# Altium integrated library Linear Technology Power Management Switching Regulator LTC1174-LTC3901.IntLib: 2647 symbols (part 354 of 364)
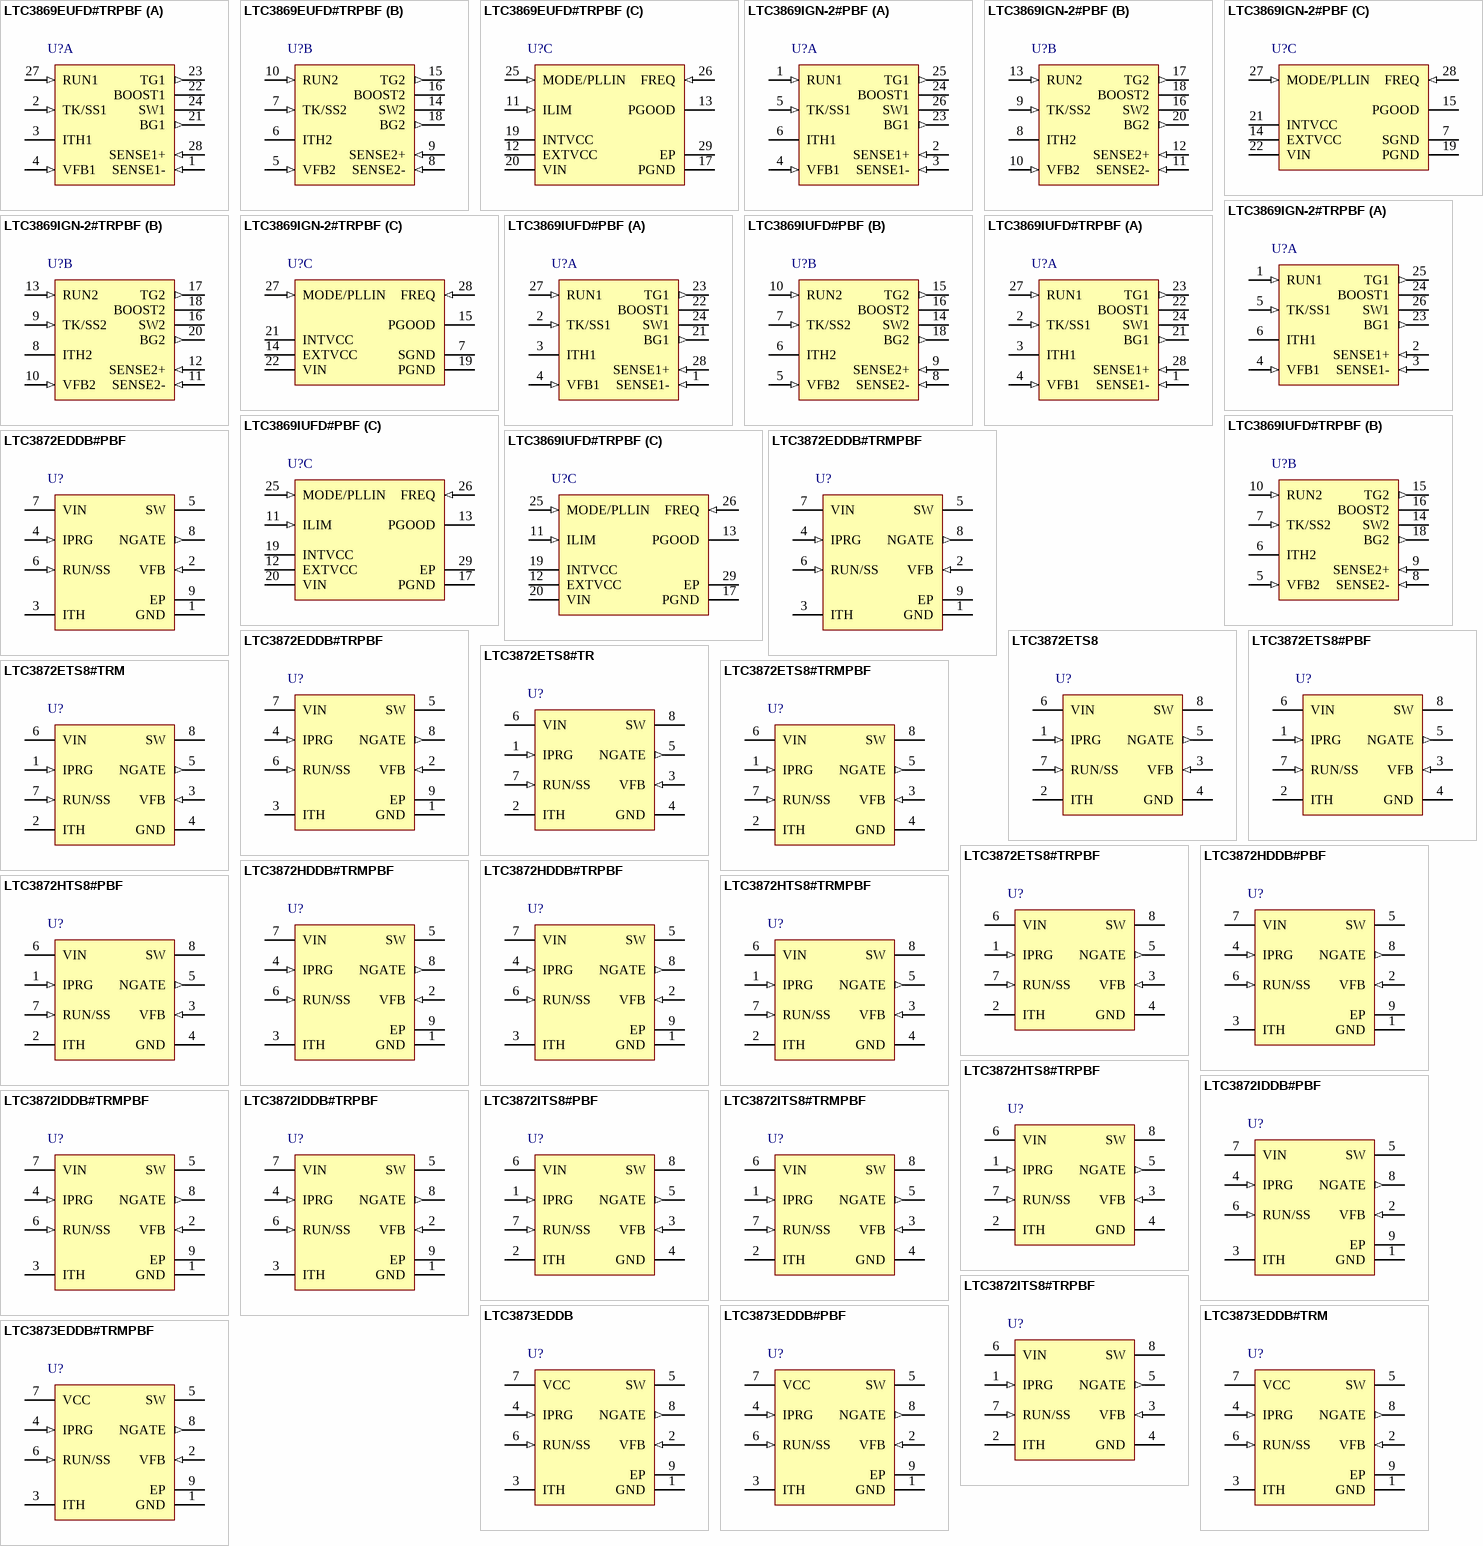
[diagram p300: symbols LTC3869EUFD#TRPBF to LTC3873EDDB#TRMPBF]

## LTC3872HDDB#TRPBF
designator U?
No Rsense Current Mode Boost DC/DC Controller, 8-pin SON (DDB-8), -40 to 150 degC, Pb-Free, Tape and Reel; Manufacturer: Linear Technology; PartNumber: LTC3872HDDB#TRPBF; Number of Outputs: 1; DatasheetVersion: Rev. B; PackageVersion: Rev. B, 06/2010; PackageReference: DDB-8; PackageDescription: 8-Pin Plastic DFN, Body 3 x 2 mm, Pitch 0.5 mm; Supplier 1: Digi-Key; Supplier Part Number 1: LTC3872HDDB#TRPBF-ND; Packing: Tape and Reel; RoHS: TRUE; Mounting Technology: Surface Mount; Code_JEDEC: MO-229; ComponentLink1Description: Manufacturer URL; ComponentLink1URL: http://www.linear.com/; ComponentLink2Description: Datasheet; ComponentLink2URL: http://cds.linear.com/docs/en/datasheet/3872fb.pdf; ComponentLink3Description: Package Specification; ComponentLink3URL: http://cds.linear.com/docs/en/packaging/DFN_8_05-08-1702.pdf
footprint LT-DDB-8_V (SON, 8-Leads, Body 3x2mm, Pitch 0.5mm, Thermal Pad 2.2x0.61mm)
pins: 1 GND (power) "Ground. The exposed pad must be soldered to PCB ground for electrical contact and rated thermal performance.", 2 VFB (in) "Receives the feedback voltage from an external resistor divider across the output.", 3 ITH "It serves as the error amplifier compensation point. Nominal voltage range for this pin is 0.7V to 1.9V", 4 IPRG (in) "Current Sense Limit Select Pin.", 5 SW "Switch node connection to inductor and current sense input pin through external slope compensation resistor. Normally, the external N-channel MOSFET’s drain is connected to this pin.", 6 RUN/SS (in) "Shutdown and external soft-start pin. In shutdown, all functions are disabled and the NGATE pin is held low.", 7 VIN (power) "Supply Pin. This pin must be closely decoupled to GND.", 8 NGATE (out) "Gate Drive for the External N-Channel MOSFET. This pin swings from 0V to VIN.", 9 EP (power) "Ground. The exposed pad must be soldered to PCB ground for electrical contact and rated thermal performance."

## LTC3872HTS8#PBF
designator U?
No Rsense Current Mode Boost DC/DC Controller, 8-pin SOT23 (TS8-8), -40 to 150 degC, Pb-Free; Manufacturer: Linear Technology; PartNumber: LTC3872HTS8#PBF; Number of Outputs: 1; DatasheetVersion: Rev. B; PackageVersion: Rev. A, 08/2010; PackageReference: TS8-8; PackageDescription: 8-Pin Plastic TSOT-23, Body 2.9 x 1.63 mm, Pitch 0.65 mm; Supplier 1: Newark; Supplier Part Number 1: 78T3272; RoHS: TRUE; Mounting Technology: Surface Mount; Code_JEDEC: MO-193; ComponentLink1Description: Manufacturer URL; ComponentLink1URL: http://www.linear.com/; ComponentLink2Description: Datasheet; ComponentLink2URL: http://cds.linear.com/docs/en/datasheet/3872fb.pdf; ComponentLink3Description: Package Specification; ComponentLink3URL: http://cds.linear.com/docs/en/packaging/SOT_8_05-08-1637.pdf
footprint LT-TS8-8-TSOT-23_V (SOT23, 8-Leads, Body 2.9x1.75mm, Pitch 0.65mm)
pins: 1 IPRG (in) "Current Sense Limit Select Pin", 2 ITH "It serves as the error amplifier compensation point. Nominal voltage range for this pin is  0.7V to 1.9V.", 3 VFB (in) "Receives the feedback voltage from an  external resistor divider across the output.", 4 GND (power) "Ground. The exposed pad must be soldered to PCB ground for electrical  contact and rated thermal performance", 5 NGATE (out) "Gate Drive for the External N-Channel  MOSFET. This pin swings from 0V to VIN.", 6 VIN (power) "Supply Pin. This pin must be closely  decoupled to GND.", 7 RUN/SS (in) "Shutdown and external soft-start  pin. In shutdown, all functions are disabled and the NGATE  pin is held low.", 8 SW "Switch node connection to inductor and  current sense input pin through external slope compensation resistor. Normally, the external N-channel MOSFET’s  drain is connected to this pin."

## LTC3872HTS8#TRMPBF
designator U?
No Rsense Current Mode Boost DC/DC Controller, 8-pin SOT23 (TS8-8), -40 to 150 degC, Pb-Free, Mini Tape and Reel; Manufacturer: Linear Technology; PartNumber: LTC3872HTS8#TRMPBF; Number of Outputs: 1; DatasheetVersion: Rev. B; PackageVersion: Rev. A, 08/2010; PackageReference: TS8-8; PackageDescription: 8-Pin Plastic TSOT-23, Body 2.9 x 1.63 mm, Pitch 0.65 mm; Supplier 1: Digi-Key; Supplier Part Number 1: LTC3872HTS8#TRMPBF-ND; Packing: Mini Tape and Reel; RoHS: TRUE; Mounting Technology: Surface Mount; Code_JEDEC: MO-193; ComponentLink1Description: Manufacturer URL; ComponentLink1URL: http://www.linear.com/; ComponentLink2Description: Datasheet; ComponentLink2URL: http://cds.linear.com/docs/en/datasheet/3872fb.pdf; ComponentLink3Description: Package Specification; ComponentLink3URL: http://cds.linear.com/docs/en/packaging/SOT_8_05-08-1637.pdf
footprint LT-TS8-8-TSOT-23_V (SOT23, 8-Leads, Body 2.9x1.75mm, Pitch 0.65mm)
pins: 1 IPRG (in) "Current Sense Limit Select Pin", 2 ITH "It serves as the error amplifier compensation point. Nominal voltage range for this pin is  0.7V to 1.9V.", 3 VFB (in) "Receives the feedback voltage from an  external resistor divider across the output.", 4 GND (power) "Ground. The exposed pad must be soldered to PCB ground for electrical  contact and rated thermal performance", 5 NGATE (out) "Gate Drive for the External N-Channel  MOSFET. This pin swings from 0V to VIN.", 6 VIN (power) "Supply Pin. This pin must be closely  decoupled to GND.", 7 RUN/SS (in) "Shutdown and external soft-start  pin. In shutdown, all functions are disabled and the NGATE  pin is held low.", 8 SW "Switch node connection to inductor and  current sense input pin through external slope compensation resistor. Normally, the external N-channel MOSFET’s  drain is connected to this pin."

## LTC3872HTS8#TRPBF
designator U?
No Rsense Current Mode Boost DC/DC Controller, 8-pin SOT23 (TS8-8), -40 to 150 degC, Pb-Free, Tape and Reel; Manufacturer: Linear Technology; PartNumber: LTC3872HTS8#TRPBF; Number of Outputs: 1; DatasheetVersion: Rev. B; PackageVersion: Rev. A, 08/2010; PackageReference: TS8-8; PackageDescription: 8-Pin Plastic TSOT-23, Body 2.9 x 1.63 mm, Pitch 0.65 mm; Supplier 1: Digi-Key; Supplier Part Number 1: LTC3872HTS8#TRPBF-ND; Packing: Tape and Reel; RoHS: TRUE; Mounting Technology: Surface Mount; Code_JEDEC: MO-193; ComponentLink1Description: Manufacturer URL; ComponentLink1URL: http://www.linear.com/; ComponentLink2Description: Datasheet; ComponentLink2URL: http://cds.linear.com/docs/en/datasheet/3872fb.pdf; ComponentLink3Description: Package Specification; ComponentLink3URL: http://cds.linear.com/docs/en/packaging/SOT_8_05-08-1637.pdf
footprint LT-TS8-8-TSOT-23_V (SOT23, 8-Leads, Body 2.9x1.75mm, Pitch 0.65mm)
pins: 1 IPRG (in) "Current Sense Limit Select Pin", 2 ITH "It serves as the error amplifier compensation point. Nominal voltage range for this pin is  0.7V to 1.9V.", 3 VFB (in) "Receives the feedback voltage from an  external resistor divider across the output.", 4 GND (power) "Ground. The exposed pad must be soldered to PCB ground for electrical  contact and rated thermal performance", 5 NGATE (out) "Gate Drive for the External N-Channel  MOSFET. This pin swings from 0V to VIN.", 6 VIN (power) "Supply Pin. This pin must be closely  decoupled to GND.", 7 RUN/SS (in) "Shutdown and external soft-start  pin. In shutdown, all functions are disabled and the NGATE  pin is held low.", 8 SW "Switch node connection to inductor and  current sense input pin through external slope compensation resistor. Normally, the external N-channel MOSFET’s  drain is connected to this pin."

## LTC3872IDDB#PBF
designator U?
No Rsense Current Mode Boost DC/DC Controller, 8-pin SON (DDB-8), -40 to 125 degC, Pb-Free; Manufacturer: Linear Technology; PartNumber: LTC3872IDDB#PBF; Number of Outputs: 1; DatasheetVersion: Rev. B; PackageVersion: Rev. B, 06/2010; PackageReference: DDB-8; PackageDescription: 8-Pin Plastic DFN, Body 3 x 2 mm, Pitch 0.5 mm; RoHS: TRUE; Mounting Technology: Surface Mount; Code_JEDEC: MO-229; ComponentLink1Description: Manufacturer URL; ComponentLink1URL: http://www.linear.com/; ComponentLink2Description: Datasheet; ComponentLink2URL: http://cds.linear.com/docs/en/datasheet/3872fb.pdf; ComponentLink3Description: Package Specification; ComponentLink3URL: http://cds.linear.com/docs/en/packaging/DFN_8_05-08-1702.pdf
footprint LT-DDB-8_V (SON, 8-Leads, Body 3x2mm, Pitch 0.5mm, Thermal Pad 2.2x0.61mm)
pins: 1 GND (power) "Ground. The exposed pad must be soldered to PCB ground for electrical contact and rated thermal performance.", 2 VFB (in) "Receives the feedback voltage from an external resistor divider across the output.", 3 ITH "It serves as the error amplifier compensation point. Nominal voltage range for this pin is 0.7V to 1.9V", 4 IPRG (in) "Current Sense Limit Select Pin.", 5 SW "Switch node connection to inductor and current sense input pin through external slope compensation resistor. Normally, the external N-channel MOSFET’s drain is connected to this pin.", 6 RUN/SS (in) "Shutdown and external soft-start pin. In shutdown, all functions are disabled and the NGATE pin is held low.", 7 VIN (power) "Supply Pin. This pin must be closely decoupled to GND.", 8 NGATE (out) "Gate Drive for the External N-Channel MOSFET. This pin swings from 0V to VIN.", 9 EP (power) "Ground. The exposed pad must be soldered to PCB ground for electrical contact and rated thermal performance."

## LTC3872IDDB#TRMPBF
designator U?
No Rsense Current Mode Boost DC/DC Controller, 8-pin SON (DDB-8), -40 to 125 degC, Pb-Free, Mini Tape and Reel; Manufacturer: Linear Technology; PartNumber: LTC3872IDDB#TRMPBF; Number of Outputs: 1; DatasheetVersion: Rev. B; PackageVersion: Rev. B, 06/2010; PackageReference: DDB-8; PackageDescription: 8-Pin Plastic DFN, Body 3 x 2 mm, Pitch 0.5 mm; Supplier 1: Digi-Key; Supplier Part Number 1: LTC3872IDDB#TRMPBF-ND; Packing: Mini Tape and Reel; RoHS: TRUE; Mounting Technology: Surface Mount; Code_JEDEC: MO-229; ComponentLink1Description: Manufacturer URL; ComponentLink1URL: http://www.linear.com/; ComponentLink2Description: Datasheet; ComponentLink2URL: http://cds.linear.com/docs/en/datasheet/3872fb.pdf; ComponentLink3Description: Package Specification; ComponentLink3URL: http://cds.linear.com/docs/en/packaging/DFN_8_05-08-1702.pdf
footprint LT-DDB-8_V (SON, 8-Leads, Body 3x2mm, Pitch 0.5mm, Thermal Pad 2.2x0.61mm)
pins: 1 GND (power) "Ground. The exposed pad must be soldered to PCB ground for electrical contact and rated thermal performance.", 2 VFB (in) "Receives the feedback voltage from an external resistor divider across the output.", 3 ITH "It serves as the error amplifier compensation point. Nominal voltage range for this pin is 0.7V to 1.9V", 4 IPRG (in) "Current Sense Limit Select Pin.", 5 SW "Switch node connection to inductor and current sense input pin through external slope compensation resistor. Normally, the external N-channel MOSFET’s drain is connected to this pin.", 6 RUN/SS (in) "Shutdown and external soft-start pin. In shutdown, all functions are disabled and the NGATE pin is held low.", 7 VIN (power) "Supply Pin. This pin must be closely decoupled to GND.", 8 NGATE (out) "Gate Drive for the External N-Channel MOSFET. This pin swings from 0V to VIN.", 9 EP (power) "Ground. The exposed pad must be soldered to PCB ground for electrical contact and rated thermal performance."

## LTC3872IDDB#TRPBF
designator U?
No Rsense Current Mode Boost DC/DC Controller, 8-pin SON (DDB-8), -40 to 125 degC, Pb-Free, Tape and Reel; Manufacturer: Linear Technology; PartNumber: LTC3872IDDB#TRPBF; Number of Outputs: 1; DatasheetVersion: Rev. B; PackageVersion: Rev. B, 06/2010; PackageReference: DDB-8; PackageDescription: 8-Pin Plastic DFN, Body 3 x 2 mm, Pitch 0.5 mm; Supplier 1: Digi-Key; Supplier Part Number 1: LTC3872IDDB#TRPBF-ND; Packing: Tape and Reel; RoHS: TRUE; Mounting Technology: Surface Mount; Code_JEDEC: MO-229; ComponentLink1Description: Manufacturer URL; ComponentLink1URL: http://www.linear.com/; ComponentLink2Description: Datasheet; ComponentLink2URL: http://cds.linear.com/docs/en/datasheet/3872fb.pdf; ComponentLink3Description: Package Specification; ComponentLink3URL: http://cds.linear.com/docs/en/packaging/DFN_8_05-08-1702.pdf
footprint LT-DDB-8_V (SON, 8-Leads, Body 3x2mm, Pitch 0.5mm, Thermal Pad 2.2x0.61mm)
pins: 1 GND (power) "Ground. The exposed pad must be soldered to PCB ground for electrical contact and rated thermal performance.", 2 VFB (in) "Receives the feedback voltage from an external resistor divider across the output.", 3 ITH "It serves as the error amplifier compensation point. Nominal voltage range for this pin is 0.7V to 1.9V", 4 IPRG (in) "Current Sense Limit Select Pin.", 5 SW "Switch node connection to inductor and current sense input pin through external slope compensation resistor. Normally, the external N-channel MOSFET’s drain is connected to this pin.", 6 RUN/SS (in) "Shutdown and external soft-start pin. In shutdown, all functions are disabled and the NGATE pin is held low.", 7 VIN (power) "Supply Pin. This pin must be closely decoupled to GND.", 8 NGATE (out) "Gate Drive for the External N-Channel MOSFET. This pin swings from 0V to VIN.", 9 EP (power) "Ground. The exposed pad must be soldered to PCB ground for electrical contact and rated thermal performance."

## LTC3872ITS8#PBF
designator U?
No Rsense Current Mode Boost DC/DC Controller, 8-pin SOT23 (TS8-8), -40 to 125 degC, Pb-Free; Manufacturer: Linear Technology; PartNumber: LTC3872ITS8#PBF; Number of Outputs: 1; DatasheetVersion: Rev. B; PackageVersion: Rev. A, 08/2010; PackageReference: TS8-8; PackageDescription: 8-Pin Plastic TSOT-23, Body 2.9 x 1.63 mm, Pitch 0.65 mm; Supplier 1: Newark; Supplier Part Number 1: 78T3274; RoHS: TRUE; Mounting Technology: Surface Mount; Code_JEDEC: MO-193; ComponentLink1Description: Manufacturer URL; ComponentLink1URL: http://www.linear.com/; ComponentLink2Description: Datasheet; ComponentLink2URL: http://cds.linear.com/docs/en/datasheet/3872fb.pdf; ComponentLink3Description: Package Specification; ComponentLink3URL: http://cds.linear.com/docs/en/packaging/SOT_8_05-08-1637.pdf
footprint LT-TS8-8-TSOT-23_V (SOT23, 8-Leads, Body 2.9x1.75mm, Pitch 0.65mm)
pins: 1 IPRG (in) "Current Sense Limit Select Pin", 2 ITH "It serves as the error amplifier compensation point. Nominal voltage range for this pin is  0.7V to 1.9V.", 3 VFB (in) "Receives the feedback voltage from an  external resistor divider across the output.", 4 GND (power) "Ground. The exposed pad must be soldered to PCB ground for electrical  contact and rated thermal performance", 5 NGATE (out) "Gate Drive for the External N-Channel  MOSFET. This pin swings from 0V to VIN.", 6 VIN (power) "Supply Pin. This pin must be closely  decoupled to GND.", 7 RUN/SS (in) "Shutdown and external soft-start  pin. In shutdown, all functions are disabled and the NGATE  pin is held low.", 8 SW "Switch node connection to inductor and  current sense input pin through external slope compensation resistor. Normally, the external N-channel MOSFET’s  drain is connected to this pin."

## LTC3872ITS8#TRMPBF
designator U?
No Rsense Current Mode Boost DC/DC Controller, 8-pin SOT23 (TS8-8), -40 to 125 degC, Pb-Free, Mini Tape and Reel; Manufacturer: Linear Technology; PartNumber: LTC3872ITS8#TRMPBF; Number of Outputs: 1; DatasheetVersion: Rev. B; PackageVersion: Rev. A, 08/2010; PackageReference: TS8-8; PackageDescription: 8-Pin Plastic TSOT-23, Body 2.9 x 1.63 mm, Pitch 0.65 mm; Supplier 1: Digi-Key; Supplier Part Number 1: LTC3872ITS8#TRMPBF-ND; Packing: Mini Tape and Reel; RoHS: TRUE; Mounting Technology: Surface Mount; Code_JEDEC: MO-193; ComponentLink1Description: Manufacturer URL; ComponentLink1URL: http://www.linear.com/; ComponentLink2Description: Datasheet; ComponentLink2URL: http://cds.linear.com/docs/en/datasheet/3872fb.pdf; ComponentLink3Description: Package Specification; ComponentLink3URL: http://cds.linear.com/docs/en/packaging/SOT_8_05-08-1637.pdf
footprint LT-TS8-8-TSOT-23_V (SOT23, 8-Leads, Body 2.9x1.75mm, Pitch 0.65mm)
pins: 1 IPRG (in) "Current Sense Limit Select Pin", 2 ITH "It serves as the error amplifier compensation point. Nominal voltage range for this pin is  0.7V to 1.9V.", 3 VFB (in) "Receives the feedback voltage from an  external resistor divider across the output.", 4 GND (power) "Ground. The exposed pad must be soldered to PCB ground for electrical  contact and rated thermal performance", 5 NGATE (out) "Gate Drive for the External N-Channel  MOSFET. This pin swings from 0V to VIN.", 6 VIN (power) "Supply Pin. This pin must be closely  decoupled to GND.", 7 RUN/SS (in) "Shutdown and external soft-start  pin. In shutdown, all functions are disabled and the NGATE  pin is held low.", 8 SW "Switch node connection to inductor and  current sense input pin through external slope compensation resistor. Normally, the external N-channel MOSFET’s  drain is connected to this pin."

## LTC3872ITS8#TRPBF
designator U?
No Rsense Current Mode Boost DC/DC Controller, 8-pin SOT23 (TS8-8), -40 to 125 degC, Pb-Free, Tape and Reel; Manufacturer: Linear Technology; PartNumber: LTC3872ITS8#TRPBF; Number of Outputs: 1; DatasheetVersion: Rev. B; PackageVersion: Rev. A, 08/2010; PackageReference: TS8-8; PackageDescription: 8-Pin Plastic TSOT-23, Body 2.9 x 1.63 mm, Pitch 0.65 mm; Supplier 1: Digi-Key; Supplier Part Number 1: LTC3872ITS8#TRPBF-ND; Packing: Tape and Reel; RoHS: TRUE; Mounting Technology: Surface Mount; Code_JEDEC: MO-193; ComponentLink1Description: Manufacturer URL; ComponentLink1URL: http://www.linear.com/; ComponentLink2Description: Datasheet; ComponentLink2URL: http://cds.linear.com/docs/en/datasheet/3872fb.pdf; ComponentLink3Description: Package Specification; ComponentLink3URL: http://cds.linear.com/docs/en/packaging/SOT_8_05-08-1637.pdf
footprint LT-TS8-8-TSOT-23_V (SOT23, 8-Leads, Body 2.9x1.75mm, Pitch 0.65mm)
pins: 1 IPRG (in) "Current Sense Limit Select Pin", 2 ITH "It serves as the error amplifier compensation point. Nominal voltage range for this pin is  0.7V to 1.9V.", 3 VFB (in) "Receives the feedback voltage from an  external resistor divider across the output.", 4 GND (power) "Ground. The exposed pad must be soldered to PCB ground for electrical  contact and rated thermal performance", 5 NGATE (out) "Gate Drive for the External N-Channel  MOSFET. This pin swings from 0V to VIN.", 6 VIN (power) "Supply Pin. This pin must be closely  decoupled to GND.", 7 RUN/SS (in) "Shutdown and external soft-start  pin. In shutdown, all functions are disabled and the NGATE  pin is held low.", 8 SW "Switch node connection to inductor and  current sense input pin through external slope compensation resistor. Normally, the external N-channel MOSFET’s  drain is connected to this pin."

## LTC3873EDDB
designator U?
No Rsense Constant Frequency Current Mode Boost / Flyback / SEPIC DC / DC Controller, 8-pin SON (DDB-8), -40 to 85 degC; Manufacturer: Linear Technology; PartNumber: LTC3873EDDB; Number of Outputs: 1; DatasheetVersion: Rev. A; PackageVersion: Rev. B, 06/2010; PackageReference: DDB-8; PackageDescription: 8-Pin Plastic DFN, Body 3 x 2 mm, Pitch 0.5 mm; RoHS: FALSE; Mounting Technology: Surface Mount; Code_JEDEC: MO-229; ComponentLink1Description: Manufacturer URL; ComponentLink1URL: http://www.linear.com/; ComponentLink2Description: Datasheet; ComponentLink2URL: http://cds.linear.com/docs/en/datasheet/3873fa.pdf; ComponentLink3Description: Package Specification; ComponentLink3URL: http://cds.linear.com/docs/en/packaging/DFN_8_05-08-1702.pdf
footprint LT-DDB-8_V (SON, 8-Leads, Body 3x2mm, Pitch 0.5mm, Thermal Pad 2.2x0.61mm)
pins: 1 GND (power) "Ground Pin.", 2 VFB (in) "This pin receives the feedback voltage from an external resistor divider across the output.", 3 ITH "This pin serves as the error ampli?er compensation point. Nominal voltage range for this pin is 0.7V to 1.9V.", 4 IPRG (in) "Current Sense Limit Select Pin.", 5 SW "Switch node connection to inductor and current sense input pin through external slope compensation resistor. Normally, the external N-channel MOSFET’s drain is connected to this pin.", 6 RUN/SS (in) "Shutdown and External Soft-Start Pin. In shutdown, all functions are disabled and the NGATE pin is held low.", 7 VCC (power) "Supply Pin. This pin must be closely decoupled to GND (Pin 4).", 8 NGATE (out) "Gate Drive for the External N-Channel MOSFET. This pin swings from 0V to VIN.", 9 EP (power) "Ground. Must be soldered to PCB for electrical contact and rated thermal performance."

## LTC3873EDDB#PBF
designator U?
No Rsense Constant Frequency Current Mode Boost / Flyback / SEPIC DC / DC Controller, 8-pin SON (DDB-8), -40 to 85 degC, Pb-Free; Manufacturer: Linear Technology; PartNumber: LTC3873EDDB#PBF; Number of Outputs: 1; DatasheetVersion: Rev. A; PackageVersion: Rev. B, 06/2010; PackageReference: DDB-8; PackageDescription: 8-Pin Plastic DFN, Body 3 x 2 mm, Pitch 0.5 mm; RoHS: TRUE; Mounting Technology: Surface Mount; Code_JEDEC: MO-229; ComponentLink1Description: Manufacturer URL; ComponentLink1URL: http://www.linear.com/; ComponentLink2Description: Datasheet; ComponentLink2URL: http://cds.linear.com/docs/en/datasheet/3873fa.pdf; ComponentLink3Description: Package Specification; ComponentLink3URL: http://cds.linear.com/docs/en/packaging/DFN_8_05-08-1702.pdf
footprint LT-DDB-8_V (SON, 8-Leads, Body 3x2mm, Pitch 0.5mm, Thermal Pad 2.2x0.61mm)
pins: 1 GND (power) "Ground Pin.", 2 VFB (in) "This pin receives the feedback voltage from an external resistor divider across the output.", 3 ITH "This pin serves as the error ampli?er compensation point. Nominal voltage range for this pin is 0.7V to 1.9V.", 4 IPRG (in) "Current Sense Limit Select Pin.", 5 SW "Switch node connection to inductor and current sense input pin through external slope compensation resistor. Normally, the external N-channel MOSFET’s drain is connected to this pin.", 6 RUN/SS (in) "Shutdown and External Soft-Start Pin. In shutdown, all functions are disabled and the NGATE pin is held low.", 7 VCC (power) "Supply Pin. This pin must be closely decoupled to GND (Pin 4).", 8 NGATE (out) "Gate Drive for the External N-Channel MOSFET. This pin swings from 0V to VIN.", 9 EP (power) "Ground. Must be soldered to PCB for electrical contact and rated thermal performance."

## LTC3873EDDB#TRM
designator U?
No Rsense Constant Frequency Current Mode Boost / Flyback / SEPIC DC / DC Controller, 8-pin SON (DDB-8), -40 to 85 degC, Mini Tape and Reel; Manufacturer: Linear Technology; PartNumber: LTC3873EDDB#TRM; Number of Outputs: 1; DatasheetVersion: Rev. A; PackageVersion: Rev. B, 06/2010; PackageReference: DDB-8; PackageDescription: 8-Pin Plastic DFN, Body 3 x 2 mm, Pitch 0.5 mm; Packing: Mini Tape and Reel; RoHS: FALSE; Mounting Technology: Surface Mount; Code_JEDEC: MO-229; ComponentLink1Description: Manufacturer URL; ComponentLink1URL: http://www.linear.com/; ComponentLink2Description: Datasheet; ComponentLink2URL: http://cds.linear.com/docs/en/datasheet/3873fa.pdf; ComponentLink3Description: Package Specification; ComponentLink3URL: http://cds.linear.com/docs/en/packaging/DFN_8_05-08-1702.pdf
footprint LT-DDB-8_V (SON, 8-Leads, Body 3x2mm, Pitch 0.5mm, Thermal Pad 2.2x0.61mm)
pins: 1 GND (power) "Ground Pin.", 2 VFB (in) "This pin receives the feedback voltage from an external resistor divider across the output.", 3 ITH "This pin serves as the error ampli?er compensation point. Nominal voltage range for this pin is 0.7V to 1.9V.", 4 IPRG (in) "Current Sense Limit Select Pin.", 5 SW "Switch node connection to inductor and current sense input pin through external slope compensation resistor. Normally, the external N-channel MOSFET’s drain is connected to this pin.", 6 RUN/SS (in) "Shutdown and External Soft-Start Pin. In shutdown, all functions are disabled and the NGATE pin is held low.", 7 VCC (power) "Supply Pin. This pin must be closely decoupled to GND (Pin 4).", 8 NGATE (out) "Gate Drive for the External N-Channel MOSFET. This pin swings from 0V to VIN.", 9 EP (power) "Ground. Must be soldered to PCB for electrical contact and rated thermal performance."

## LTC3873EDDB#TRMPBF
designator U?
No Rsense Constant Frequency Current Mode Boost / Flyback / SEPIC DC / DC Controller, 8-pin SON (DDB-8), -40 to 85 degC, Pb-Free, Mini Tape and Reel; Manufacturer: Linear Technology; PartNumber: LTC3873EDDB#TRMPBF; Number of Outputs: 1; DatasheetVersion: Rev. A; PackageVersion: Rev. B, 06/2010; PackageReference: DDB-8; PackageDescription: 8-Pin Plastic DFN, Body 3 x 2 mm, Pitch 0.5 mm; Supplier 1: Digi-Key; Supplier Part Number 1: LTC3873EDDB#TRMPBFTR-ND; Supplier 2: Digi-Key; Supplier Part Number 2: LTC3873EDDB#TRMPBFCT-ND; Supplier 3: Digi-Key; Supplier Part Number 3: LTC3873EDDB#TRMPBFDKR-ND; Packing: Mini Tape and Reel; RoHS: TRUE; Mounting Technology: Surface Mount; Code_JEDEC: MO-229; ComponentLink1Description: Manufacturer URL; ComponentLink1URL: http://www.linear.com/; ComponentLink2Description: Datasheet; ComponentLink2URL: http://cds.linear.com/docs/en/datasheet/3873fa.pdf; ComponentLink3Description: Package Specification; ComponentLink3URL: http://cds.linear.com/docs/en/packaging/DFN_8_05-08-1702.pdf
footprint LT-DDB-8_V (SON, 8-Leads, Body 3x2mm, Pitch 0.5mm, Thermal Pad 2.2x0.61mm)
pins: 1 GND (power) "Ground Pin.", 2 VFB (in) "This pin receives the feedback voltage from an external resistor divider across the output.", 3 ITH "This pin serves as the error ampli?er compensation point. Nominal voltage range for this pin is 0.7V to 1.9V.", 4 IPRG (in) "Current Sense Limit Select Pin.", 5 SW "Switch node connection to inductor and current sense input pin through external slope compensation resistor. Normally, the external N-channel MOSFET’s drain is connected to this pin.", 6 RUN/SS (in) "Shutdown and External Soft-Start Pin. In shutdown, all functions are disabled and the NGATE pin is held low.", 7 VCC (power) "Supply Pin. This pin must be closely decoupled to GND (Pin 4).", 8 NGATE (out) "Gate Drive for the External N-Channel MOSFET. This pin swings from 0V to VIN.", 9 EP (power) "Ground. Must be soldered to PCB for electrical contact and rated thermal performance."

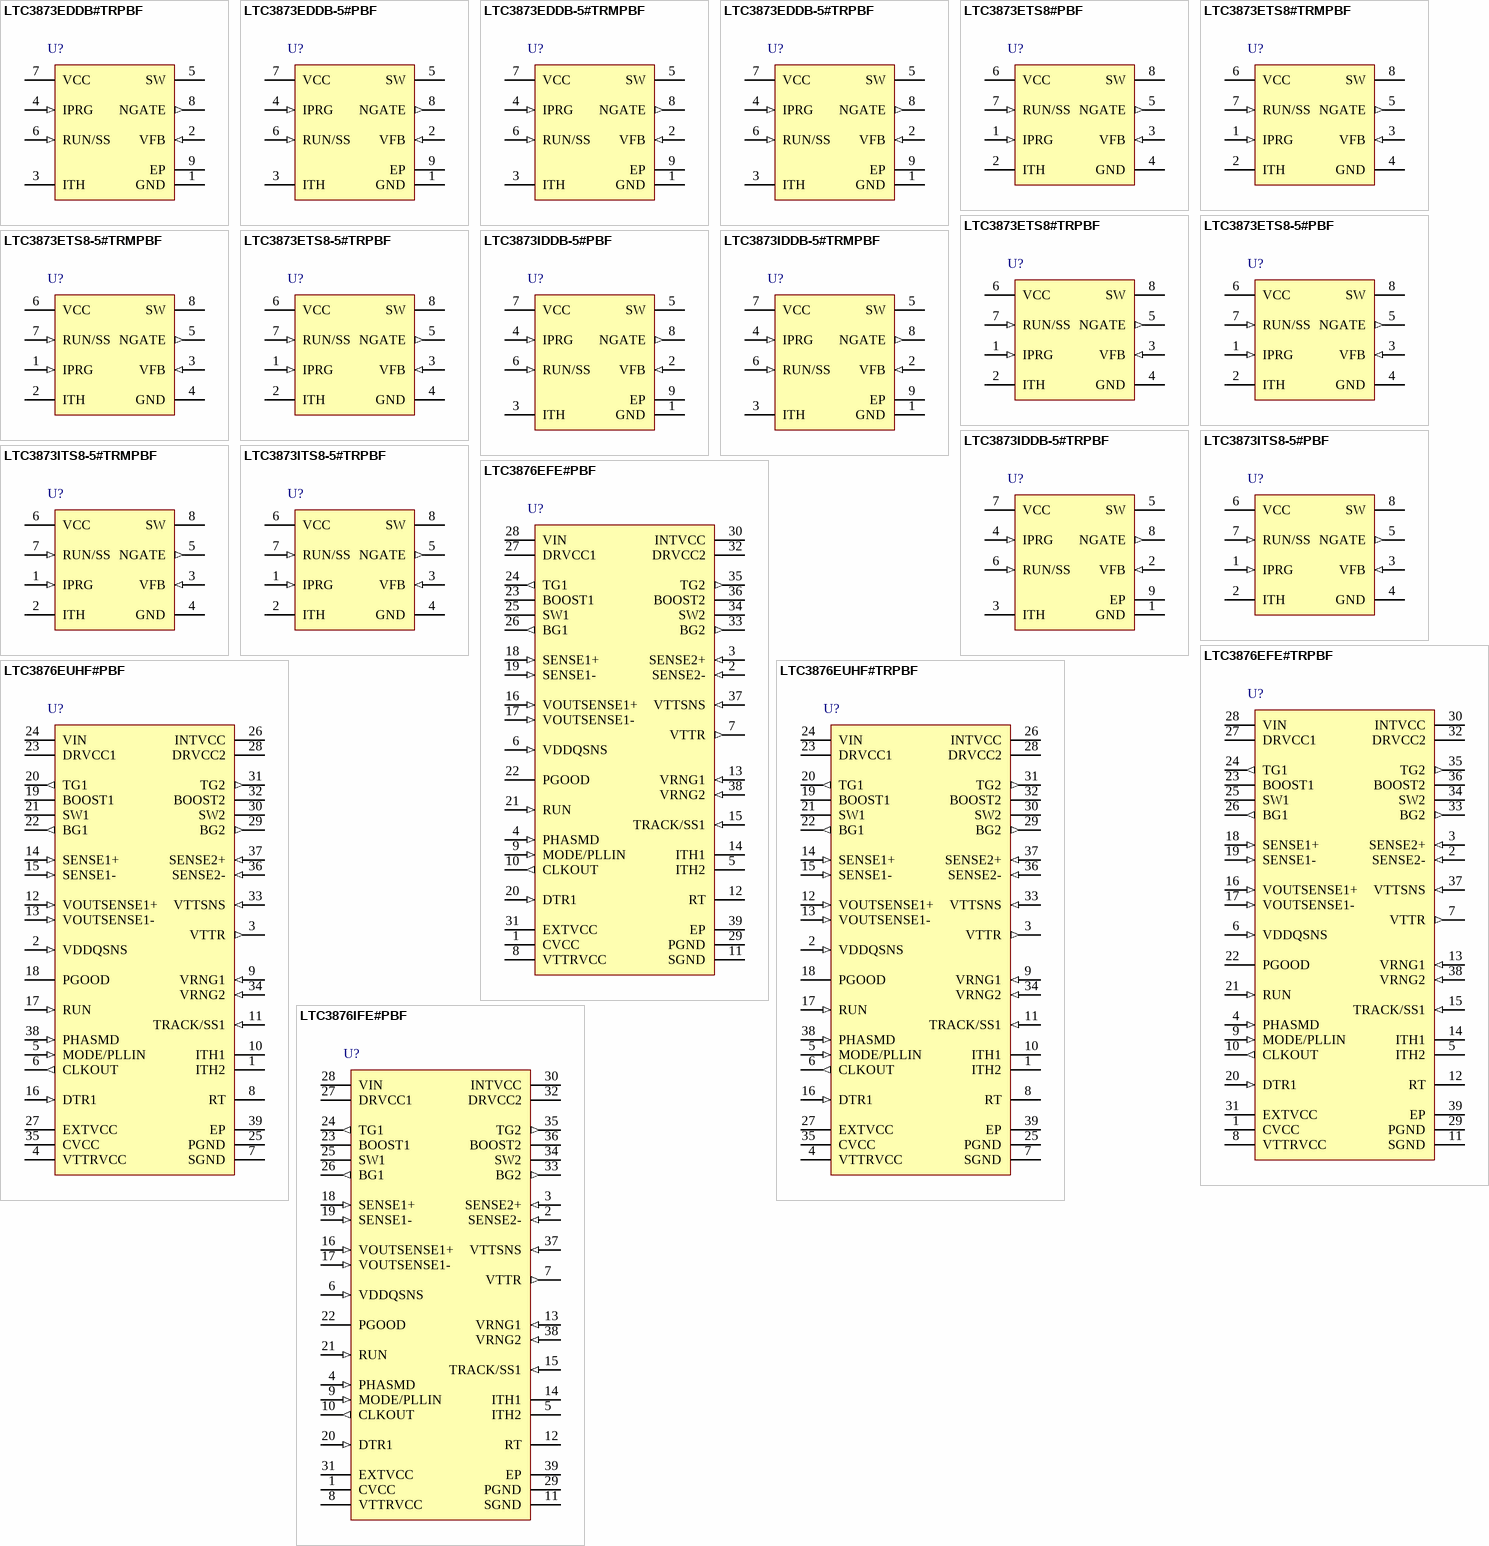
[diagram p110: symbols LTC3873EDDB#TRPBF to LTC3876IFE#PBF]

## LTC3873EDDB#TRPBF
designator U?
No Rsense Constant Frequency Current Mode Boost / Flyback / SEPIC DC / DC Controller, 8-pin SON (DDB-8), -40 to 85 degC, Pb-Free, Tape and Reel; Manufacturer: Linear Technology; PartNumber: LTC3873EDDB#TRPBF; Number of Outputs: 1; DatasheetVersion: Rev. A; PackageVersion: Rev. B, 06/2010; PackageReference: DDB-8; PackageDescription: 8-Pin Plastic DFN, Body 3 x 2 mm, Pitch 0.5 mm; Supplier 1: Digi-Key; Supplier Part Number 1: LTC3873EDDB#TRPBF-ND; Packing: Tape and Reel; RoHS: TRUE; Mounting Technology: Surface Mount; Code_JEDEC: MO-229; ComponentLink1Description: Manufacturer URL; ComponentLink1URL: http://www.linear.com/; ComponentLink2Description: Datasheet; ComponentLink2URL: http://cds.linear.com/docs/en/datasheet/3873fa.pdf; ComponentLink3Description: Package Specification; ComponentLink3URL: http://cds.linear.com/docs/en/packaging/DFN_8_05-08-1702.pdf
footprint LT-DDB-8_V (SON, 8-Leads, Body 3x2mm, Pitch 0.5mm, Thermal Pad 2.2x0.61mm)
pins: 1 GND (power) "Ground Pin.", 2 VFB (in) "This pin receives the feedback voltage from an external resistor divider across the output.", 3 ITH "This pin serves as the error ampli?er compensation point. Nominal voltage range for this pin is 0.7V to 1.9V.", 4 IPRG (in) "Current Sense Limit Select Pin.", 5 SW "Switch node connection to inductor and current sense input pin through external slope compensation resistor. Normally, the external N-channel MOSFET’s drain is connected to this pin.", 6 RUN/SS (in) "Shutdown and External Soft-Start Pin. In shutdown, all functions are disabled and the NGATE pin is held low.", 7 VCC (power) "Supply Pin. This pin must be closely decoupled to GND (Pin 4).", 8 NGATE (out) "Gate Drive for the External N-Channel MOSFET. This pin swings from 0V to VIN.", 9 EP (power) "Ground. Must be soldered to PCB for electrical contact and rated thermal performance."

## LTC3873EDDB-5#PBF
designator U?
No Rsense Constant Frequency Current Mode Boost / Flyback / SEPIC DC / DC Controller, 8-pin SON (DDB-8), -40 to 85 degC, Pb-Free; Manufacturer: Linear Technology; PartNumber: LTC3873EDDB-5#PBF; Number of Outputs: 1; DatasheetVersion: Rev. B; PackageVersion: Rev. B, 06/2010; PackageReference: DDB-8; PackageDescription: 8-Pin Plastic DFN, Body 3 x 2 mm, Pitch 0.5 mm; Supplier 1: Newark; Supplier Part Number 1: 78T3275; RoHS: TRUE; Mounting Technology: Surface Mount; Code_JEDEC: MO-229; ComponentLink1Description: Manufacturer URL; ComponentLink1URL: http://www.linear.com/; ComponentLink2Description: Datasheet; ComponentLink2URL: http://cds.linear.com/docs/en/datasheet/38735fb.pdf; ComponentLink3Description: Package Specification; ComponentLink3URL: http://cds.linear.com/docs/en/packaging/DFN_8_05-08-1702.pdf
footprint LT-DDB-8_V (SON, 8-Leads, Body 3x2mm, Pitch 0.5mm, Thermal Pad 2.2x0.61mm)
pins: 1 GND (power) "Ground Pin.", 2 VFB (in) "This pin receives the feedback voltage from an external resistor divider across the output.", 3 ITH "This pin serves as the error ampli?er compensation point. Nominal voltage range for this pin is 0.7V to 1.9V.", 4 IPRG (in) "Current Sense Limit Select Pin.", 5 SW "Switch node connection to inductor and current sense input pin through external slope compensation resistor. Normally, the external N-channel MOSFET’s drain is connected to this pin.", 6 RUN/SS (in) "Shutdown and External Soft-Start Pin. In shutdown, all functions are disabled and the NGATE pin is held low.", 7 VCC (power) "Supply Pin. This pin must be closely decoupled to GND (Pin 4).", 8 NGATE (out) "Gate Drive for the External N-Channel MOSFET. This pin swings from 0V to VIN.", 9 EP (power) "Ground. Must be soldered to PCB for electrical contact and rated thermal performance."

## LTC3873EDDB-5#TRMPBF
designator U?
No Rsense Constant Frequency Current Mode Boost / Flyback / SEPIC DC / DC Controller, 8-pin SON (DDB-8), -40 to 85 degC, Pb-Free, Mini Tape and Reel; Manufacturer: Linear Technology; PartNumber: LTC3873EDDB-5#TRMPBF; Number of Outputs: 1; DatasheetVersion: Rev. B; PackageVersion: Rev. B, 06/2010; PackageReference: DDB-8; PackageDescription: 8-Pin Plastic DFN, Body 3 x 2 mm, Pitch 0.5 mm; Supplier 1: Digi-Key; Supplier Part Number 1: LTC3873EDDB-5#TRMPBF-ND; Packing: Mini Tape and Reel; RoHS: TRUE; Mounting Technology: Surface Mount; Code_JEDEC: MO-229; ComponentLink1Description: Manufacturer URL; ComponentLink1URL: http://www.linear.com/; ComponentLink2Description: Datasheet; ComponentLink2URL: http://cds.linear.com/docs/en/datasheet/38735fb.pdf; ComponentLink3Description: Package Specification; ComponentLink3URL: http://cds.linear.com/docs/en/packaging/DFN_8_05-08-1702.pdf
footprint LT-DDB-8_V (SON, 8-Leads, Body 3x2mm, Pitch 0.5mm, Thermal Pad 2.2x0.61mm)
pins: 1 GND (power) "Ground Pin.", 2 VFB (in) "This pin receives the feedback voltage from an external resistor divider across the output.", 3 ITH "This pin serves as the error ampli?er compensation point. Nominal voltage range for this pin is 0.7V to 1.9V.", 4 IPRG (in) "Current Sense Limit Select Pin.", 5 SW "Switch node connection to inductor and current sense input pin through external slope compensation resistor. Normally, the external N-channel MOSFET’s drain is connected to this pin.", 6 RUN/SS (in) "Shutdown and External Soft-Start Pin. In shutdown, all functions are disabled and the NGATE pin is held low.", 7 VCC (power) "Supply Pin. This pin must be closely decoupled to GND (Pin 4).", 8 NGATE (out) "Gate Drive for the External N-Channel MOSFET. This pin swings from 0V to VIN.", 9 EP (power) "Ground. Must be soldered to PCB for electrical contact and rated thermal performance."

## LTC3873EDDB-5#TRPBF
designator U?
No Rsense Constant Frequency Current Mode Boost / Flyback / SEPIC DC / DC Controller, 8-pin SON (DDB-8), -40 to 85 degC, Pb-Free, Tape and Reel; Manufacturer: Linear Technology; PartNumber: LTC3873EDDB-5#TRPBF; Number of Outputs: 1; DatasheetVersion: Rev. B; PackageVersion: Rev. B, 06/2010; PackageReference: DDB-8; PackageDescription: 8-Pin Plastic DFN, Body 3 x 2 mm, Pitch 0.5 mm; Supplier 1: Digi-Key; Supplier Part Number 1: LTC3873EDDB-5#TRPBF-ND; Packing: Tape and Reel; RoHS: TRUE; Mounting Technology: Surface Mount; Code_JEDEC: MO-229; ComponentLink1Description: Manufacturer URL; ComponentLink1URL: http://www.linear.com/; ComponentLink2Description: Datasheet; ComponentLink2URL: http://cds.linear.com/docs/en/datasheet/38735fb.pdf; ComponentLink3Description: Package Specification; ComponentLink3URL: http://cds.linear.com/docs/en/packaging/DFN_8_05-08-1702.pdf
footprint LT-DDB-8_V (SON, 8-Leads, Body 3x2mm, Pitch 0.5mm, Thermal Pad 2.2x0.61mm)
pins: 1 GND (power) "Ground Pin.", 2 VFB (in) "This pin receives the feedback voltage from an external resistor divider across the output.", 3 ITH "This pin serves as the error ampli?er compensation point. Nominal voltage range for this pin is 0.7V to 1.9V.", 4 IPRG (in) "Current Sense Limit Select Pin.", 5 SW "Switch node connection to inductor and current sense input pin through external slope compensation resistor. Normally, the external N-channel MOSFET’s drain is connected to this pin.", 6 RUN/SS (in) "Shutdown and External Soft-Start Pin. In shutdown, all functions are disabled and the NGATE pin is held low.", 7 VCC (power) "Supply Pin. This pin must be closely decoupled to GND (Pin 4).", 8 NGATE (out) "Gate Drive for the External N-Channel MOSFET. This pin swings from 0V to VIN.", 9 EP (power) "Ground. Must be soldered to PCB for electrical contact and rated thermal performance."

## LTC3873ETS8#PBF
designator U?
No Rsense Constant Frequency Current Mode Boost / Flyback / SEPIC DC / DC Controller, 8-pin SOT23 (TS8-8), -40 to 85 degC, Pb-Free; Manufacturer: Linear Technology; PartNumber: LTC3873ETS8#PBF; Number of Outputs: 1; DatasheetVersion: Rev. A; PackageVersion: Rev. A, 08/2010; PackageReference: TS8-8; PackageDescription: 8-Pin Plastic TSOT-23, Body 2.9 x 1.63 mm, Pitch 0.65 mm; RoHS: TRUE; Mounting Technology: Surface Mount; Code_JEDEC: MO-193; ComponentLink1Description: Manufacturer URL; ComponentLink1URL: http://www.linear.com/; ComponentLink2Description: Datasheet; ComponentLink2URL: http://cds.linear.com/docs/en/datasheet/3873fa.pdf; ComponentLink3Description: Package Specification; ComponentLink3URL: http://cds.linear.com/docs/en/packaging/SOT_8_05-08-1637.pdf
footprint LT-TS8-8-TSOT-23_V (SOT23, 8-Leads, Body 2.9x1.75mm, Pitch 0.65mm)
pins: 1 IPRG (in) "Current Sense Limit Select Pin.", 2 ITH "This pin serves as the error ampli?er compensation point. Nominal voltage range for this pin is 0.7V to 1.9V.", 3 VFB (in) "This pin receives the feedback voltage from an external resistor divider across the output.", 4 GND (power) "Ground Pin.", 5 NGATE (out) "Gate Drive for the External N-Channel MOSFET. This pin swings from 0V to VIN.", 6 VCC (power) "Supply Pin. This pin must be closely decoupled to GND (Pin 4).", 7 RUN/SS (in) "Shutdown and External Soft-Start Pin. In shutdown, all functions are disabled and the NGATE pin is held low.", 8 SW "Switch node connection to inductor and current sense input pin through external slope compensation resistor. Normally, the external N-channel MOSFET’s drain is connected to this pin."

## LTC3873ETS8#TRMPBF
designator U?
No Rsense Constant Frequency Current Mode Boost / Flyback / SEPIC DC / DC Controller, 8-pin SOT23 (TS8-8), -40 to 85 degC, Pb-Free, Mini Tape and Reel; Manufacturer: Linear Technology; PartNumber: LTC3873ETS8#TRMPBF; Number of Outputs: 1; DatasheetVersion: Rev. A; PackageVersion: Rev. A, 08/2010; PackageReference: TS8-8; PackageDescription: 8-Pin Plastic TSOT-23, Body 2.9 x 1.63 mm, Pitch 0.65 mm; Supplier 1: Digi-Key; Supplier Part Number 1: LTC3873ETS8#TRMPBFTR-ND; Supplier 2: Digi-Key; Supplier Part Number 2: LTC3873ETS8#TRMPBFCT-ND; Supplier 3: Digi-Key; Supplier Part Number 3: LTC3873ETS8#TRMPBFDKR-ND; Packing: Mini Tape and Reel; RoHS: TRUE; Mounting Technology: Surface Mount; Code_JEDEC: MO-193; ComponentLink1Description: Manufacturer URL; ComponentLink1URL: http://www.linear.com/; ComponentLink2Description: Datasheet; ComponentLink2URL: http://cds.linear.com/docs/en/datasheet/3873fa.pdf; ComponentLink3Description: Package Specification; ComponentLink3URL: http://cds.linear.com/docs/en/packaging/SOT_8_05-08-1637.pdf
footprint LT-TS8-8-TSOT-23_V (SOT23, 8-Leads, Body 2.9x1.75mm, Pitch 0.65mm)
pins: 1 IPRG (in) "Current Sense Limit Select Pin.", 2 ITH "This pin serves as the error ampli?er compensation point. Nominal voltage range for this pin is 0.7V to 1.9V.", 3 VFB (in) "This pin receives the feedback voltage from an external resistor divider across the output.", 4 GND (power) "Ground Pin.", 5 NGATE (out) "Gate Drive for the External N-Channel MOSFET. This pin swings from 0V to VIN.", 6 VCC (power) "Supply Pin. This pin must be closely decoupled to GND (Pin 4).", 7 RUN/SS (in) "Shutdown and External Soft-Start Pin. In shutdown, all functions are disabled and the NGATE pin is held low.", 8 SW "Switch node connection to inductor and current sense input pin through external slope compensation resistor. Normally, the external N-channel MOSFET’s drain is connected to this pin."

## LTC3873ETS8#TRPBF
designator U?
No Rsense Constant Frequency Current Mode Boost / Flyback / SEPIC DC / DC Controller, 8-pin SOT23 (TS8-8), -40 to 85 degC, Pb-Free, Tape and Reel; Manufacturer: Linear Technology; PartNumber: LTC3873ETS8#TRPBF; Number of Outputs: 1; DatasheetVersion: Rev. A; PackageVersion: Rev. A, 08/2010; PackageReference: TS8-8; PackageDescription: 8-Pin Plastic TSOT-23, Body 2.9 x 1.63 mm, Pitch 0.65 mm; Supplier 1: Digi-Key; Supplier Part Number 1: LTC3873ETS8#TRPBF-ND; Supplier 2: Newark; Supplier Part Number 2: 56M8626; Packing: Tape and Reel; RoHS: TRUE; Mounting Technology: Surface Mount; Code_JEDEC: MO-193; ComponentLink1Description: Manufacturer URL; ComponentLink1URL: http://www.linear.com/; ComponentLink2Description: Datasheet; ComponentLink2URL: http://cds.linear.com/docs/en/datasheet/3873fa.pdf; ComponentLink3Description: Package Specification; ComponentLink3URL: http://cds.linear.com/docs/en/packaging/SOT_8_05-08-1637.pdf
footprint LT-TS8-8-TSOT-23_V (SOT23, 8-Leads, Body 2.9x1.75mm, Pitch 0.65mm)
pins: 1 IPRG (in) "Current Sense Limit Select Pin.", 2 ITH "This pin serves as the error ampli?er compensation point. Nominal voltage range for this pin is 0.7V to 1.9V.", 3 VFB (in) "This pin receives the feedback voltage from an external resistor divider across the output.", 4 GND (power) "Ground Pin.", 5 NGATE (out) "Gate Drive for the External N-Channel MOSFET. This pin swings from 0V to VIN.", 6 VCC (power) "Supply Pin. This pin must be closely decoupled to GND (Pin 4).", 7 RUN/SS (in) "Shutdown and External Soft-Start Pin. In shutdown, all functions are disabled and the NGATE pin is held low.", 8 SW "Switch node connection to inductor and current sense input pin through external slope compensation resistor. Normally, the external N-channel MOSFET’s drain is connected to this pin."

## LTC3873ETS8-5#PBF
designator U?
No Rsense Constant Frequency Current Mode Boost / Flyback / SEPIC DC / DC Controller, 8-pin SOT23 (TS8-8), -40 to 85 degC, Pb-Free; Manufacturer: Linear Technology; PartNumber: LTC3873ETS8-5#PBF; Number of Outputs: 1; DatasheetVersion: Rev. B; PackageVersion: Rev. A, 08/2010; PackageReference: TS8-8; PackageDescription: 8-Pin Plastic TSOT-23, Body 2.9 x 1.63 mm, Pitch 0.65 mm; Supplier 1: Newark; Supplier Part Number 1: 78T3277; RoHS: TRUE; Mounting Technology: Surface Mount; Code_JEDEC: MO-193; ComponentLink1Description: Manufacturer URL; ComponentLink1URL: http://www.linear.com/; ComponentLink2Description: Datasheet; ComponentLink2URL: http://cds.linear.com/docs/en/datasheet/38735fb.pdf; ComponentLink3Description: Package Specification; ComponentLink3URL: http://cds.linear.com/docs/en/packaging/SOT_8_05-08-1637.pdf
footprint LT-TS8-8-TSOT-23_V (SOT23, 8-Leads, Body 2.9x1.75mm, Pitch 0.65mm)
pins: 1 IPRG (in) "Current Sense Limit Select Pin.", 2 ITH "This pin serves as the error ampli?er compensation point. Nominal voltage range for this pin is 0.7V to 1.9V.", 3 VFB (in) "This pin receives the feedback voltage from an external resistor divider across the output.", 4 GND (power) "Ground Pin.", 5 NGATE (out) "Gate Drive for the External N-Channel MOSFET. This pin swings from 0V to VIN.", 6 VCC (power) "Supply Pin. This pin must be closely decoupled to GND (Pin 4).", 7 RUN/SS (in) "Shutdown and External Soft-Start Pin. In shutdown, all functions are disabled and the NGATE pin is held low.", 8 SW "Switch node connection to inductor and current sense input pin through external slope compensation resistor. Normally, the external N-channel MOSFET’s drain is connected to this pin."

## LTC3873ETS8-5#TRMPBF
designator U?
No Rsense Constant Frequency Current Mode Boost / Flyback / SEPIC DC / DC Controller, 8-pin SOT23 (TS8-8), -40 to 85 degC, Pb-Free, Mini Tape and Reel; Manufacturer: Linear Technology; PartNumber: LTC3873ETS8-5#TRMPBF; Number of Outputs: 1; DatasheetVersion: Rev. B; PackageVersion: Rev. A, 08/2010; PackageReference: TS8-8; PackageDescription: 8-Pin Plastic TSOT-23, Body 2.9 x 1.63 mm, Pitch 0.65 mm; Supplier 1: Digi-Key; Supplier Part Number 1: LTC3873ETS8-5#TRMPBF-ND; Supplier 2: Newark; Supplier Part Number 2: 56M8623; Packing: Mini Tape and Reel; RoHS: TRUE; Mounting Technology: Surface Mount; Code_JEDEC: MO-193; ComponentLink1Description: Manufacturer URL; ComponentLink1URL: http://www.linear.com/; ComponentLink2Description: Datasheet; ComponentLink2URL: http://cds.linear.com/docs/en/datasheet/38735fb.pdf; ComponentLink3Description: Package Specification; ComponentLink3URL: http://cds.linear.com/docs/en/packaging/SOT_8_05-08-1637.pdf
footprint LT-TS8-8-TSOT-23_V (SOT23, 8-Leads, Body 2.9x1.75mm, Pitch 0.65mm)
pins: 1 IPRG (in) "Current Sense Limit Select Pin.", 2 ITH "This pin serves as the error ampli?er compensation point. Nominal voltage range for this pin is 0.7V to 1.9V.", 3 VFB (in) "This pin receives the feedback voltage from an external resistor divider across the output.", 4 GND (power) "Ground Pin.", 5 NGATE (out) "Gate Drive for the External N-Channel MOSFET. This pin swings from 0V to VIN.", 6 VCC (power) "Supply Pin. This pin must be closely decoupled to GND (Pin 4).", 7 RUN/SS (in) "Shutdown and External Soft-Start Pin. In shutdown, all functions are disabled and the NGATE pin is held low.", 8 SW "Switch node connection to inductor and current sense input pin through external slope compensation resistor. Normally, the external N-channel MOSFET’s drain is connected to this pin."

## LTC3873ETS8-5#TRPBF
designator U?
No Rsense Constant Frequency Current Mode Boost / Flyback / SEPIC DC / DC Controller, 8-pin SOT23 (TS8-8), -40 to 85 degC, Pb-Free, Tape and Reel; Manufacturer: Linear Technology; PartNumber: LTC3873ETS8-5#TRPBF; Number of Outputs: 1; DatasheetVersion: Rev. B; PackageVersion: Rev. A, 08/2010; PackageReference: TS8-8; PackageDescription: 8-Pin Plastic TSOT-23, Body 2.9 x 1.63 mm, Pitch 0.65 mm; Supplier 1: Digi-Key; Supplier Part Number 1: LTC3873ETS8-5#TRPBF-ND; Packing: Tape and Reel; RoHS: TRUE; Mounting Technology: Surface Mount; Code_JEDEC: MO-193; ComponentLink1Description: Manufacturer URL; ComponentLink1URL: http://www.linear.com/; ComponentLink2Description: Datasheet; ComponentLink2URL: http://cds.linear.com/docs/en/datasheet/38735fb.pdf; ComponentLink3Description: Package Specification; ComponentLink3URL: http://cds.linear.com/docs/en/packaging/SOT_8_05-08-1637.pdf
footprint LT-TS8-8-TSOT-23_V (SOT23, 8-Leads, Body 2.9x1.75mm, Pitch 0.65mm)
pins: 1 IPRG (in) "Current Sense Limit Select Pin.", 2 ITH "This pin serves as the error ampli?er compensation point. Nominal voltage range for this pin is 0.7V to 1.9V.", 3 VFB (in) "This pin receives the feedback voltage from an external resistor divider across the output.", 4 GND (power) "Ground Pin.", 5 NGATE (out) "Gate Drive for the External N-Channel MOSFET. This pin swings from 0V to VIN.", 6 VCC (power) "Supply Pin. This pin must be closely decoupled to GND (Pin 4).", 7 RUN/SS (in) "Shutdown and External Soft-Start Pin. In shutdown, all functions are disabled and the NGATE pin is held low.", 8 SW "Switch node connection to inductor and current sense input pin through external slope compensation resistor. Normally, the external N-channel MOSFET’s drain is connected to this pin."

## LTC3873IDDB-5#PBF
designator U?
No Rsense Constant Frequency Current Mode Boost / Flyback / SEPIC DC / DC Controller, 8-pin SON (DDB-8), -40 to 125 degC, Pb-Free; Manufacturer: Linear Technology; PartNumber: LTC3873IDDB-5#PBF; Number of Outputs: 1; DatasheetVersion: Rev. B; PackageVersion: Rev. B, 06/2010; PackageReference: DDB-8; PackageDescription: 8-Pin Plastic DFN, Body 3 x 2 mm, Pitch 0.5 mm; Supplier 1: Newark; Supplier Part Number 1: 78T3279; RoHS: TRUE; Mounting Technology: Surface Mount; Code_JEDEC: MO-229; ComponentLink1Description: Manufacturer URL; ComponentLink1URL: http://www.linear.com/; ComponentLink2Description: Datasheet; ComponentLink2URL: http://cds.linear.com/docs/en/datasheet/38735fb.pdf; ComponentLink3Description: Package Specification; ComponentLink3URL: http://cds.linear.com/docs/en/packaging/DFN_8_05-08-1702.pdf
footprint LT-DDB-8_V (SON, 8-Leads, Body 3x2mm, Pitch 0.5mm, Thermal Pad 2.2x0.61mm)
pins: 1 GND (power) "Ground Pin.", 2 VFB (in) "This pin receives the feedback voltage from an external resistor divider across the output.", 3 ITH "This pin serves as the error ampli?er compensation point. Nominal voltage range for this pin is 0.7V to 1.9V.", 4 IPRG (in) "Current Sense Limit Select Pin.", 5 SW "Switch node connection to inductor and current sense input pin through external slope compensation resistor. Normally, the external N-channel MOSFET’s drain is connected to this pin.", 6 RUN/SS (in) "Shutdown and External Soft-Start Pin. In shutdown, all functions are disabled and the NGATE pin is held low.", 7 VCC (power) "Supply Pin. This pin must be closely decoupled to GND (Pin 4).", 8 NGATE (out) "Gate Drive for the External N-Channel MOSFET. This pin swings from 0V to VIN.", 9 EP (power) "Ground. Must be soldered to PCB for electrical contact and rated thermal performance."

## LTC3873IDDB-5#TRMPBF
designator U?
No Rsense Constant Frequency Current Mode Boost / Flyback / SEPIC DC / DC Controller, 8-pin SON (DDB-8), -40 to 125 degC, Pb-Free, Mini Tape and Reel; Manufacturer: Linear Technology; PartNumber: LTC3873IDDB-5#TRMPBF; Number of Outputs: 1; DatasheetVersion: Rev. B; PackageVersion: Rev. B, 06/2010; PackageReference: DDB-8; PackageDescription: 8-Pin Plastic DFN, Body 3 x 2 mm, Pitch 0.5 mm; Supplier 1: Digi-Key; Supplier Part Number 1: LTC3873IDDB-5#TRMPBF-ND; Supplier 2: Newark; Supplier Part Number 2: 12P7585; Packing: Mini Tape and Reel; RoHS: TRUE; Mounting Technology: Surface Mount; Code_JEDEC: MO-229; ComponentLink1Description: Manufacturer URL; ComponentLink1URL: http://www.linear.com/; ComponentLink2Description: Datasheet; ComponentLink2URL: http://cds.linear.com/docs/en/datasheet/38735fb.pdf; ComponentLink3Description: Package Specification; ComponentLink3URL: http://cds.linear.com/docs/en/packaging/DFN_8_05-08-1702.pdf
footprint LT-DDB-8_V (SON, 8-Leads, Body 3x2mm, Pitch 0.5mm, Thermal Pad 2.2x0.61mm)
pins: 1 GND (power) "Ground Pin.", 2 VFB (in) "This pin receives the feedback voltage from an external resistor divider across the output.", 3 ITH "This pin serves as the error ampli?er compensation point. Nominal voltage range for this pin is 0.7V to 1.9V.", 4 IPRG (in) "Current Sense Limit Select Pin.", 5 SW "Switch node connection to inductor and current sense input pin through external slope compensation resistor. Normally, the external N-channel MOSFET’s drain is connected to this pin.", 6 RUN/SS (in) "Shutdown and External Soft-Start Pin. In shutdown, all functions are disabled and the NGATE pin is held low.", 7 VCC (power) "Supply Pin. This pin must be closely decoupled to GND (Pin 4).", 8 NGATE (out) "Gate Drive for the External N-Channel MOSFET. This pin swings from 0V to VIN.", 9 EP (power) "Ground. Must be soldered to PCB for electrical contact and rated thermal performance."